# Altium integrated library TAJC106M016RNJ.IntLib: 1 symbol
Pins are listed as number, name and electrical type; pins without a type are passive.

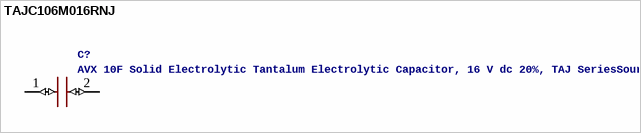
[diagram p0: symbol TAJC106M016RNJ]

## TAJC106M016RNJ
designator C?, comment AVX 10F Solid Electrolytic Tantalum Electrolytic Capacitor, 16 V dc 20%, TAJ SeriesSource:  Datasheet
GateName_1: G$1; SymbolName_1: TAJC106M016RNJ; Allied_Number: 70001875; LibraryName: TAJC106M016RNJ; DeviceSetName: TAJC106M016RNJ; Package: CAPPM6032X280N; Manufacturer_Name: AVX; Manufacturer_Part_Number: TAJC106M016RNJ; RS_Part_Number: 8873045; RS_Price-Stock: http://uk.rs-online.com/web/p/products/8873045; Allied_Price-Stock: https://www.alliedelec.com/avx-tajc106m016rnj/70001875/; Arrow_Part_Number: TAJC106M016RNJ; Arrow_Price-Stock: https://www.arrow.com/en/products/tajc106m016rnj/avx; Description: AVX 10F Solid Electrolytic Tantalum Electrolytic Capacitor, 16 V dc 20%, TAJ Series; Height: 2.8mm
footprint CAPPM6032X280N
pins: 1 + (io), 2 - (io)